# EAGLE library part 74*598 (library 74xx-eu)
8-bit SHIFT REGISTER, input latch
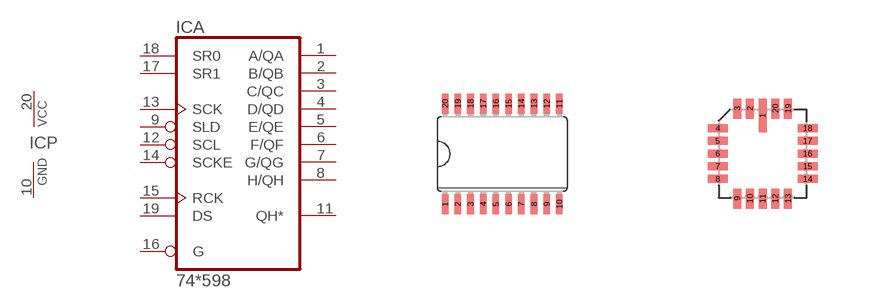
[diagram p256: symbol with the pads of SO20W; footprints SO20W, LCC20]

Designator prefix IC; gates A=74598 P=PWRN

## 74598DW, 74LS598DW  [SO20W]
1  A:A/QA
2  A:B/QB
3  A:C/QC
4  A:D/QD
5  A:E/QE
6  A:F/QF
7  A:G/QG
8  A:H/QH
9  A:SLD  in
10  P:GND  pwr
11  A:QH*
12  A:SCL  in
13  A:SCK  in
14  A:SCKE  in
15  A:RCK  in
16  A:G  in
17  A:SR1  in
18  A:SR0  in
19  A:DS  in
20  P:VCC  pwr

## 74598FK, 74LS598FK  [LCC20]
Pads as for SO20W

## 74598N, 74LS598N  [DIL20]
Pads as for SO20W

## Footprint SO20W (pad centres in mm)
Wide Small Outline package 300 mil
smd 0.165 x 0.508: 1 -1.429,-1.257; 2 -1.111,-1.257; 3 -0.794,-1.257; 4 -0.476,-1.257; 5 -0.159,-1.257; 6 0.159,-1.257; 7 0.476,-1.257; 8 0.794,-1.257; 9 1.111,-1.257; 10 1.429,-1.257; 11 1.429,1.257; 12 1.111,1.257; 13 0.794,1.257; 14 0.476,1.257; 15 0.159,1.257; 16 -0.159,1.257; 17 -0.476,1.257; 18 -0.794,1.257; 19 -1.111,1.257; 20 -1.429,1.257

## Footprint LCC20 (pad centres in mm)
Leadless Chip Carrier Ceramic Package
smd 0.2 x 0.85: 1 0,0.95
smd 0.2 x 0.5: 2 -0.318,1.125; 3 -0.635,1.125; 9 -0.635,-1.125; 10 -0.318,-1.125; 11 0,-1.125; 12 0.318,-1.125; 13 0.635,-1.125; 19 0.635,1.125; 20 0.318,1.125
smd 0.5 x 0.2: 4 -1.125,0.635; 5 -1.125,0.318; 6 -1.125,0; 7 -1.125,-0.318; 8 -1.125,-0.635; 14 1.125,-0.635; 15 1.125,-0.318; 16 1.125,0; 17 1.125,0.318; 18 1.125,0.635

## Footprint DIL20 (pad centres in mm)
Dual In Line Package
drill 0.203 long: 1 -2.857,-0.953; 2 -2.223,-0.953; 3 -1.587,-0.953; 4 -0.953,-0.953; 5 -0.318,-0.953; 6 0.318,-0.953; 7 0.953,-0.953; 8 1.587,-0.953; 9 2.223,-0.953; 10 2.857,-0.953; 11 2.857,0.953; 12 2.223,0.953; 13 1.587,0.953; 14 0.953,0.953; 15 0.318,0.953; 16 -0.318,0.953; 17 -0.953,0.953; 18 -1.587,0.953; 19 -2.223,0.953; 20 -2.857,0.953